# EAGLE library part TLV62130 (library chips_old)
High Efficient 3A switching step-down regulator. 1V-5V out, 4V-17V in.
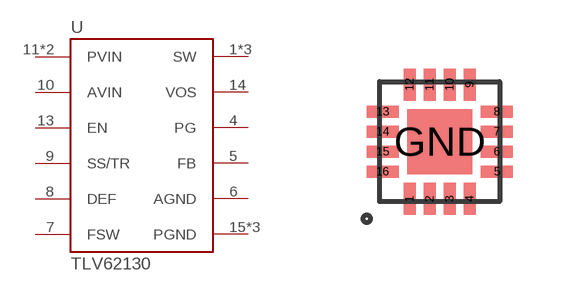
[diagram p51: symbol with the pads of TQFN-16/3MM; footprint TQFN-16/3MM]

Designator prefix U

## TLV62130 (DIGIKEY: 296-35978-1-ND; MANUFACTURER: Texas Instruments; MPN: TLV62130RGTR)  [TQFN-16/3MM]
1  SW
2  SW
3  SW
4  PG
5  FB
6  AGND
7  FSW
8  DEF
9  SS/TR
10  AVIN
11  PVIN
12  PVIN
13  EN
14  VOS
15  PGND
16  PGND
GND  PGND

## Footprint TQFN-16/3MM (pad centres in mm)
smd 0.3 x 0.8: 1 -0.75,-1.43; 2 -0.25,-1.43; 3 0.25,-1.43; 4 0.75,-1.43; 9 0.75,1.43; 10 0.25,1.43; 11 -0.25,1.43; 12 -0.75,1.43
smd 0.8 x 0.3: 5 1.43,-0.75; 6 1.43,-0.25; 7 1.43,0.25; 8 1.43,0.75; 13 -1.43,0.75; 14 -1.43,0.25; 15 -1.43,-0.25; 16 -1.43,-0.75
smd 1.63 x 1.63: GND 0,0